# Altium footprint library SOT23-3P95_237X112L40X40N.PcbLib: 1 footprints
Each footprint in its own frame and in the unit in brackets; x right, y up, seen from the top. Pads: shape width x height; smd on the part's side, far side on the other; paste and mask are expansions set on the pad; w line width, h text height; cw(c..) or ccw(c..) is an arc to the next point about the centre after c.
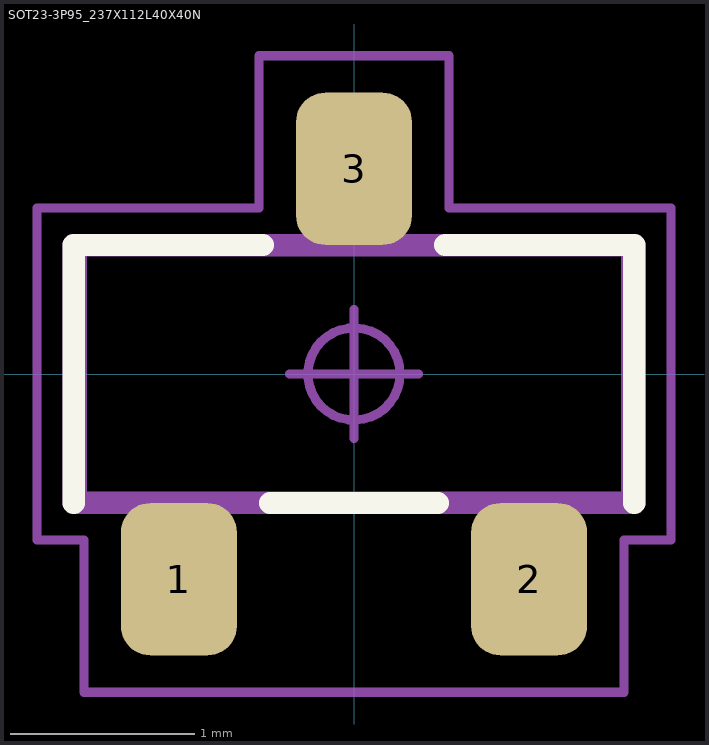
[diagram p0: the footprint, top view; thin cyan lines are the x and y axes]

## SOT23-3P95_237X112L40X40N [mm] "Small Outline Transistor, SOT-23 Type, 0.95 mm pitch; 3 pin, 2.92 mm L X 1.30 mm W X 1.12 mm H Body"
height 1.12
pads (3):
  rrect50% 0.629x0.826 smd: 1(-0.95,-1.113) 2(0.95,-1.113) 3(0,1.113)
Top Overlay:
  lines w0.12: -1.52,-0.7 -1.52,0.7 -0.495,0.7 ; -0.455,-0.7 0.455,-0.7 ; 0.495,0.7 1.52,0.7 1.52,-0.7
Mechanical 3:
  lines w0.12: -1.52,-0.7 -1.52,0.7 1.52,0.7 1.52,-0.7 -1.52,-0.7
Mechanical 5:
  lines w0.025: -1.46,-0.65 -1.46,0.65 1.46,0.65 1.46,-0.65 -1.46,-0.65 ; -1.15,-1.185 -0.75,-1.185 -0.75,-0.785 -1.15,-0.785 -1.15,-1.185 ; -0.2,0.785 0.2,0.785 0.2,1.185 -0.2,1.185 -0.2,0.785 ; 0.75,-1.185 1.15,-1.185 1.15,-0.785 0.75,-0.785 0.75,-1.185
Mechanical 7:
  circle w0.05: c0,0 r0.25
  lines w0.05: -0.35,0 0.35,0 ; 0,-0.35 0,0.35 ; -1.72,-0.9 -1.72,0.9 -0.515,0.9 -0.515,1.726 0.515,1.726 0.515,0.9 1.72,0.9 1.72,-0.9 1.465,-0.9 1.465,-1.726 -1.465,-1.726 -1.465,-0.9 -1.72,-0.9
Mechanical 9:
  text "'Desciption'" at -2.413,2.794 h1.52
3D body "SOT23-3P95_237X112L40X40.STEP": height 1.12, standoff 0, extent -1.46,-1.185 1.46,1.185
3D body: height 3.65, standoff -3.65, extent -1.72,-1.726 1.72,1.726